# EAGLE library part PICAXE-28X1 (library bt_pic)
PICAXE 28 pin BASIC microcontroller chip PICAXE is a neat entry-level microcontroller system that is relatively cheap to get started with. The chip is programmed with a simple serial connection and the BASIC development environment is free! PICAXE has some excellent educational applications and support, and is a great entryway into more complicated embedded systems. If you’re look for a place to start with microcontrollers, PICAXE is a great way to go! datasheet.pdf <http://www.rev-ed.co.uk/docs/picaxe_manual1.pdf>
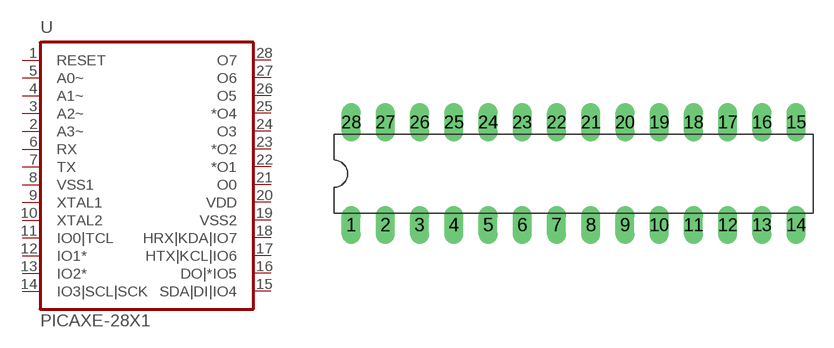
[diagram p5: symbol with the pads of DIL28; footprint DIL28]

Designator prefix U

## PICAXE-28X1  [DIL28]
1  RESET  in
2  A3~  in
3  A2~  in
4  A1~  in
5  A0~  in
6  RX  in
7  TX  out
8  VSS1  pwr
9  XTAL1  pas
10  XTAL2  pas
11  IO0|TCL
12  IO1*
13  IO2*
14  IO3|SCL|SCK
15  SDA|DI|IO4
16  DO|*IO5
17  HTX|KCL|IO6
18  HRX|KDA|IO7
19  VSS2  pwr
20  VDD  pwr
21  O0  out
22  *O1  out
23  *O2  out
24  O3  out
25  *O4  out
26  O5  out
27  O6  out
28  O7  out

## Footprint DIL28 (pad centres in mm)
drill 0.813 pad 1.422 long: 1 -16.51,-3.81; 2 -13.97,-3.81; 3 -11.43,-3.81; 4 -8.89,-3.81; 5 -6.35,-3.81; 6 -3.81,-3.81; 7 -1.27,-3.81; 8 1.27,-3.81; 9 3.81,-3.81; 10 6.35,-3.81; 11 8.89,-3.81; 12 11.43,-3.81; 13 13.97,-3.81; 14 16.51,-3.81; 15 16.51,3.81; 16 13.97,3.81; 17 11.43,3.81; 18 8.89,3.81; 19 6.35,3.81; 20 3.81,3.81; 21 1.27,3.81; 22 -1.27,3.81; 23 -3.81,3.81; 24 -6.35,3.81; 25 -8.89,3.81; 26 -11.43,3.81; 27 -13.97,3.81; 28 -16.51,3.81